# EAGLE library part MAX7456EUI+ (library MAX7456EUI_)
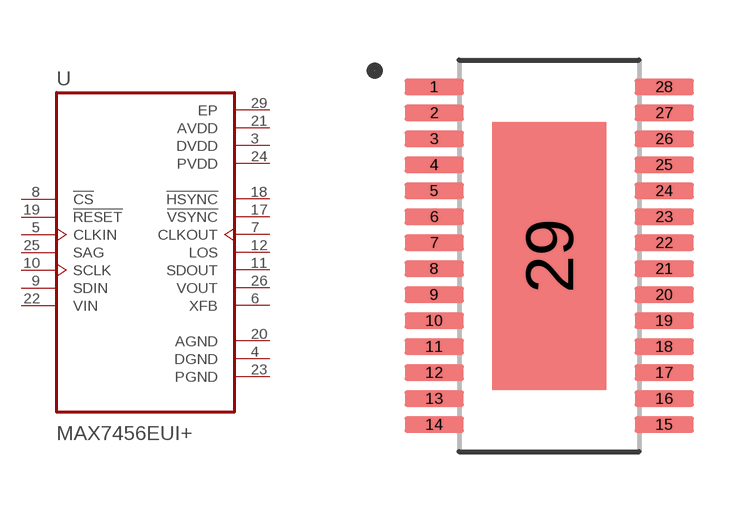
[diagram p0: symbol with the pads of SOP65P637X110-28N; footprint SOP65P637X110-28N]

Designator prefix U

## MAX7456EUI+  [SOP65P637X110-28N]
3  DVDD  pwr
4  DGND  pwr
5  CLKIN  in
6  XFB  out
7  CLKOUT  out
8  !CS  in
9  SDIN  in
10  SCLK  in
11  SDOUT  out
12  LOS  out
17  !VSYNC  out
18  !HSYNC  out
19  !RESET  in
20  AGND  pwr
21  AVDD  pwr
22  VIN  in
23  PGND  pwr
24  PVDD  pwr
25  SAG  in
26  VOUT  out
29  EP  pwr

## Footprint SOP65P637X110-28N (pad centres in mm)
smd 1.48 x 0.41: 1 -2.875,4.225; 2 -2.875,3.575; 3 -2.875,2.925; 4 -2.875,2.275; 5 -2.875,1.625; 6 -2.875,0.975; 7 -2.875,0.325; 8 -2.875,-0.325; 9 -2.875,-0.975; 10 -2.875,-1.625; 11 -2.875,-2.275; 12 -2.875,-2.925; 13 -2.875,-3.575; 14 -2.875,-4.225; 15 2.875,-4.225; 16 2.875,-3.575; 17 2.875,-2.925; 18 2.875,-2.275; 19 2.875,-1.625; 20 2.875,-0.975; 21 2.875,-0.325; 22 2.875,0.325; 23 2.875,0.975; 24 2.875,1.625; 25 2.875,2.275; 26 2.875,2.925; 27 2.875,3.575; 28 2.875,4.225
smd 2.85 x 6.7: 29 0,0